# EAGLE library part TEA1721 (library tea1721)
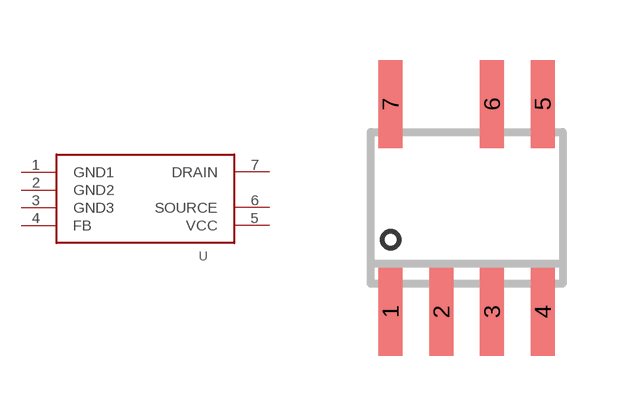
[diagram p0: symbol with the pads of SO7; footprint SO7]

Designator prefix -

## TEA1721  [SO7]
1  GND1
2  GND2
3  GND3
4  FB
5  VCC
6  SOURCE
7  DRAIN

## Footprint SO7 (pad centres in mm)
smd 0.6 x 2.2: 1 -2.375,-2.56; 2 -1.105,-2.56; 3 0.165,-2.56; 4 1.435,-2.56; 5 1.435,2.64; 6 0.165,2.64; 7 -2.375,2.64